# EAGLE library part ADPL42002ARDZ-3.3-R7 (library ADPL42002ARDZ-3.3-R7)
20V, 200mA, Low Noise, CMOS LDO Linear Regulator Source: Datasheet <https://www.analog.com/media/en/technical-documentation/data-sheets/adpl42002.pdf>
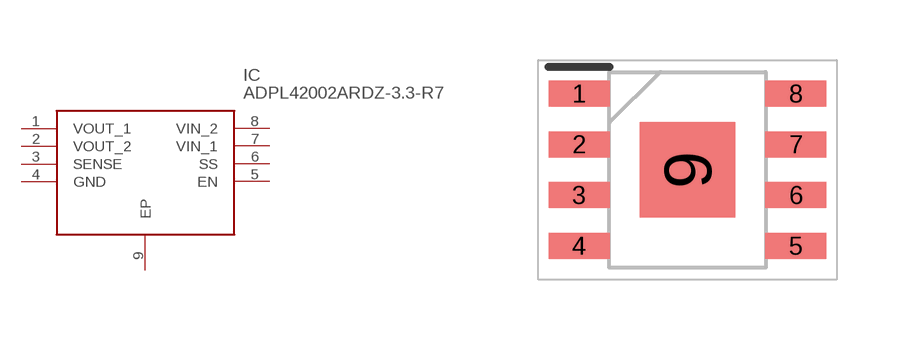
[diagram p0: symbol with the pads of SOIC127P600X175-9N; footprint SOIC127P600X175-9N]

Designator prefix IC

## ADPL42002ARDZ-3.3-R7 (Description: 20V, 200mA, Low Noise, CMOS LDO Linear Regulator; Height: 1.75mm; Manufacturer_Name: Analog Devices; Manufacturer_Part_Number: ADPL42002ARDZ-3.3-R7)  [SOIC127P600X175-9N]
1  VOUT_1
2  VOUT_2
3  SENSE
4  GND
5  EN
6  SS
7  VIN_1
8  VIN_2
9  EP

## Footprint SOIC127P600X175-9N (pad centres in mm)
RD-8-1_2023
smd 1.525 x 0.65: 1 -2.712,1.905; 2 -2.712,0.635; 3 -2.712,-0.635; 4 -2.712,-1.905; 5 2.712,-1.905; 6 2.712,-0.635; 7 2.712,0.635; 8 2.712,1.905
smd 2.39 x 2.39: 9 0,0